# EAGLE library part UART (library hw4)
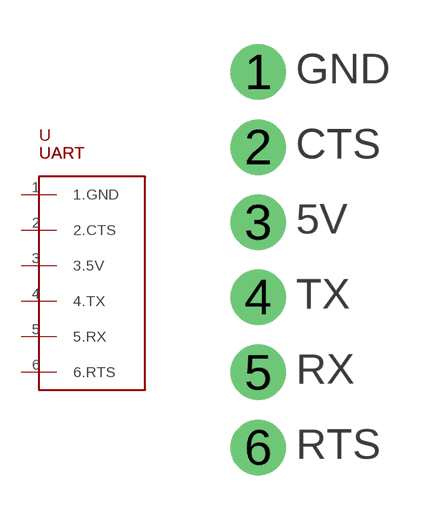
[diagram p8: symbol with the pads of UART; footprint UART]

Designator prefix -

## UART  [UART]
1  1.GND
2  2.CTS
3  3.5V
4  4.TX
5  5.RX
6  6.RTS

## Footprint UART (pad centres in mm)
drill 1.016 pad 1.88: 1 0,6.35; 2 0,3.81; 3 0,1.27; 4 0,-1.27; 5 0,-3.81; 6 0,-6.35